# Altium footprint library PCB - LEADLESS - QFN - TI VQFN-11 2.5x2.1 RNR.PCBLIB: 1 footprints
Each footprint in its own frame and in the unit in brackets; x right, y up, seen from the top. Pads: shape width x height; smd on the part's side, far side on the other; paste and mask are expansions set on the pad; w line width, h text height; cw(c..) or ccw(c..) is an arc to the next point about the centre after c.
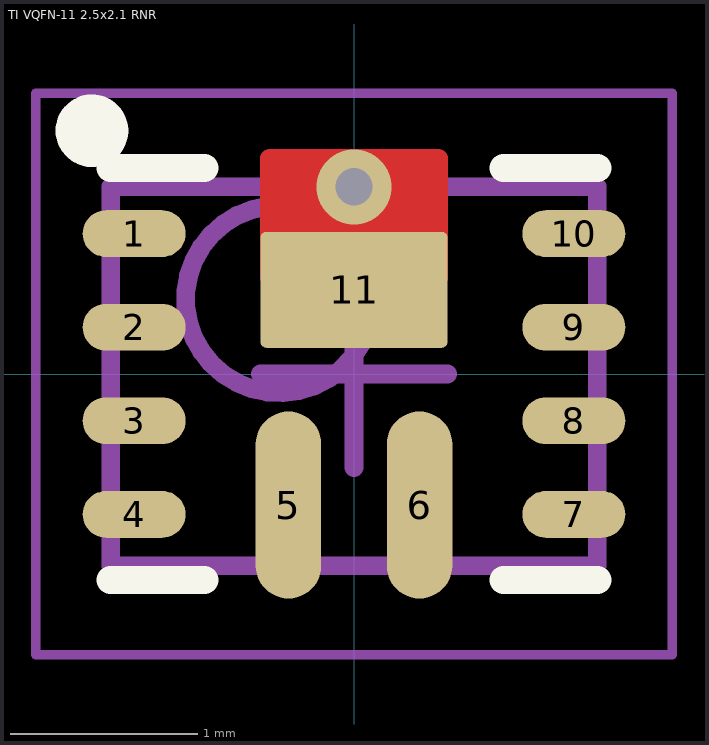
[diagram p0: the footprint, top view; thin cyan lines are the x and y axes]

## TI VQFN-11 2.5x2.1 RNR [mm] "VQFN, 11-Leads, Body 2.50x2.0mm, Pitch 0.50mm/0.47mm, IPC Medium Density"
height 1
pads (11):
  oval 0.55x0.25 smd: 1(-1.175,0.75) 2(-1.175,0.25) 3(-1.175,-0.25) 4(-1.175,-0.75) 7(1.175,-0.75) 8(1.175,-0.25) 9(1.175,0.25) 10(1.175,0.75)
  oval 0.35x1 smd: 5(-0.35,-0.7) 6(0.35,-0.7)
  rrect10% 1x0.62 smd: 11(0,0.45)
via 0,1 diameter 0.4 hole 0.2
Top Layer:
  region: -0.5,1.2
  region: -0.5,0.5 -0.5,1.1 -0.5,1.12 -0.485,1.157 -0.457,1.185 -0.42,1.2 -0.4,1.2 0.4,1.2 0.42,1.2 0.457,1.185 0.485,1.157 0.5,1.12 0.5,1.1 0.5,0.5
  region: 0.5,0.65 0.5,1.15 0.5,1.16 0.492,1.178 0.478,1.192 0.46,1.2 0.45,1.2 0.3,1.2 0.29,1.2 0.272,1.192 0.258,1.178 0.25,1.16 0.25,1.15 0.25,0.8 0.249,0.79 0.242,0.772 0.228,0.758 0.21,0.751 0.2,0.75 0.2,0.65
  region: -0.5,0.65 -0.5,1.15 -0.5,1.16 -0.492,1.178 -0.478,1.192 -0.46,1.2 -0.45,1.2 -0.3,1.2 -0.29,1.2 -0.272,1.192 -0.258,1.178 -0.25,1.16 -0.25,1.15 -0.25,0.8 -0.249,0.79 -0.242,0.772 -0.228,0.758 -0.21,0.751 -0.2,0.75 -0.2,0.65
Top Overlay:
  circle w0.2: c-1.4,1.3 r0.094
  lines w0.15: -1.3,-1.1 -0.8,-1.1 ; -1.3,1.1 -0.8,1.1 ; 0.8,-1.1 1.3,-1.1 ; 0.8,1.1 1.3,1.1
Mechanical 13:
  circle w0.1: c-0.4,0.4 r0.5
  lines w0.1: -1.3,-1.025 1.3,-1.025 1.3,1 -1.3,1 -1.3,-1.025
Mechanical 15:
  lines w0.05: -1.7,-1.5 1.7,-1.5 1.7,1.5 -1.7,1.5 -1.7,-1.5
  lines w0.1: -0.5,0 0.5,0 ; 0,-0.5 0,0.5
3D body: height 1, standoff 0.01, extent -1.25,-1 1.25,1